# EAGLE library part BGA2022 (library custom)
RF Active Mixer Upconverter 8dB Gain 12dB NF 0.9-2.4GHz 4V
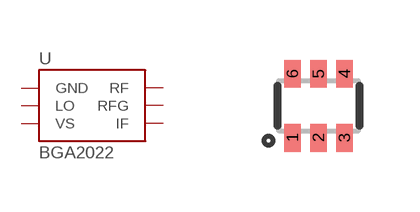
[diagram p76: symbol with the pads of SOT-363; footprint SOT-363]

Designator prefix U

## BGA2022  [SOT-363]
1  GND
2  LO
3  VS
4  IF
5  RFG
6  RF

## Footprint SOT-363 (pad centres in mm)
smd 0.42 x 0.7: 1 -0.65,-0.8; 2 0,-0.8; 3 0.65,-0.8; 4 0.65,0.8; 5 0,0.8; 6 -0.65,0.8